# EAGLE library part DA03-11SUR (library Display_LED)
Dual Digit Numeric Display - 7SEG, 0.3" Character size, RED, 10DIP, THT Datasheet <https://www.kingbrightusa.com/images/catalog/SPEC/DA03-11SURKWA.pdf>
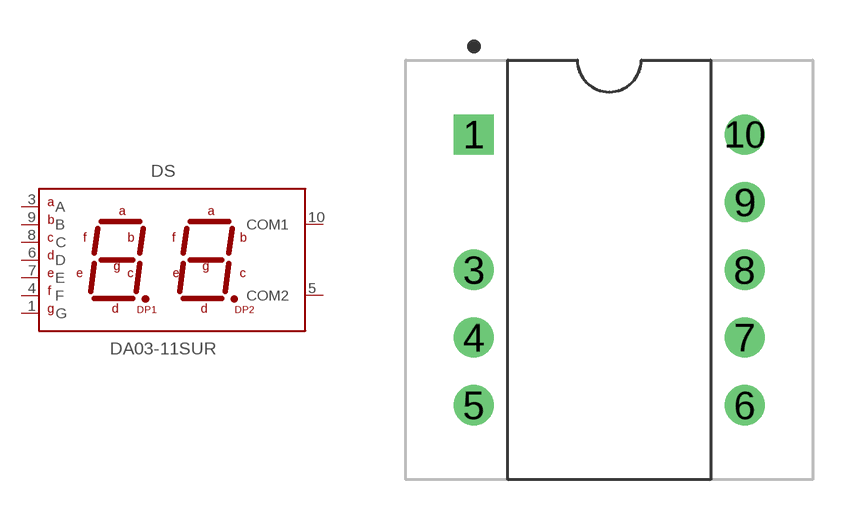
[diagram p1: symbol with the pads of DA03-11SURKWA; footprint DA03-11SURKWA]

Designator prefix DS

## DA03-11SUR (CATEGORY: DISPLAY; COLOR: Hyper Red (AlGaInP); CONFIGURATION: Common Anode; DESCRIPTION: 7.62 mm (0.3 inch) Dual Digit Numeric Display; DIGIT: Dual Digit; MANUFACTURER: Kingbright; MPN: DA03-11SURKWA; OPERATING_TEMP: -40°C to +85 °C; PART_STATUS: Active; ROHS_COMPLIANT: COMPLIANT; SERIES: -; SUB-CATEGORY: LED; THERMALLOSS: 0.075 W; TYPE: 7 Segment; VALUE: DA03-11SURKWA)  [DA03-11SURKWA]
1  G  pas
3  A  pas
4  F  pas
5  COM2  pas
6  D  pas
7  E  pas
8  C  pas
9  B  pas
10  COM1  pas

## Footprint DA03-11SURKWA (pad centres in mm)
drill 1 square: 1 0,0
drill 1: 3 0,-5.08; 4 0,-7.62; 5 0,-10.16; 6 10.16,-10.16; 7 10.16,-7.62; 8 10.16,-5.08; 9 10.16,-2.54; 10 10.16,0